# EAGLE library part NL27WZ08 (library IC)
On Semiconductor NL27WZ08
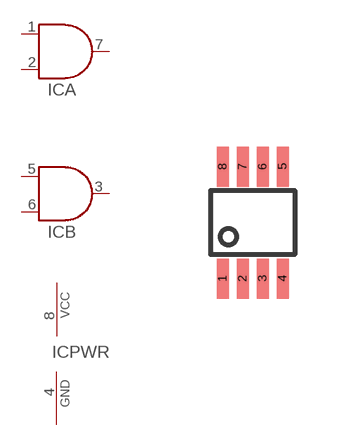
[diagram p93: symbol with the pads of US8; footprint US8]

Designator prefix IC; gates A=AND2 B=AND2 PWR=PWR-VCC-GND

## NL27WZ08  [US8]
1  A:A
2  A:B
3  B:Y
4  PWR:GND  pwr
5  B:A
6  B:B
7  A:Y
8  PWR:VCC  pwr

## Footprint US8 (pad centres in mm)
smd 0.3 x 1: 1 -0.7,-1.4; 2 -0.2,-1.4; 3 0.3,-1.4; 4 0.8,-1.4; 5 0.8,1.4; 6 0.3,1.4; 7 -0.2,1.4; 8 -0.7,1.4